# Altium schematic symbol library X.Schlib: 1 symbol
Pins are listed as number, name and electrical type; pins without a type are passive.

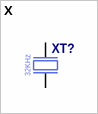
[diagram p0: symbol X]

## X
designator XT?  Frequency: 32KHz  (hidden comment: X)
Resonator Ceramic
pins: 1 inp, 2 out